# EAGLE library part ALLSERIALSLAVE (library AllSerialv2)
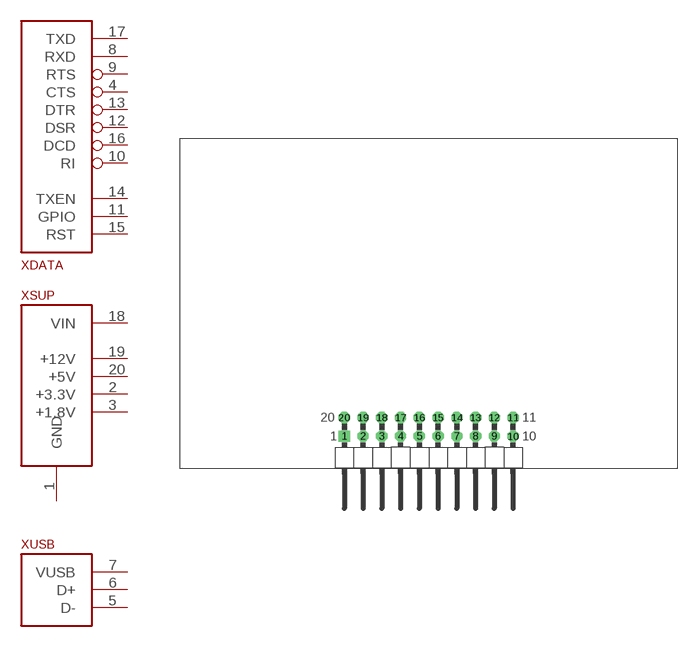
[diagram p1: symbol with the pads of DAUGHTER-THT; footprint DAUGHTER-THT]

Designator prefix X; gates DATA=ALLSERIALDATA_SLAVE SUP=ALLSERIALSUP USB=ALLSERIALUSB

## ALLSERIALSLAVE  [DAUGHTER-THT]
1  SUP:GND
2  SUP:+3.3V
3  SUP:+1.8V
4  DATA:CTS  in
5  USB:D-
6  USB:D+
7  USB:VUSB
8  DATA:RXD  in
9  DATA:RTS  out
10  DATA:RI  in
11  DATA:GPIO
12  DATA:DSR  in
13  DATA:DTR  out
14  DATA:TXEN  out
15  DATA:RST
16  DATA:DCD  in
17  DATA:TXD  out
18  SUP:VIN
19  SUP:+12V
20  SUP:+5V

## Footprint DAUGHTER-THT (pad centres in mm)
drill 1.016 square: 1 -11.43,4.445
drill 1.016 octagon: 2 -8.89,4.445; 3 -6.35,4.445; 4 -3.81,4.445; 5 -1.27,4.445; 6 1.27,4.445; 7 3.81,4.445; 8 6.35,4.445; 9 8.89,4.445; 10 11.43,4.445; 11 11.43,6.985; 12 8.89,6.985; 13 6.35,6.985; 14 3.81,6.985; 15 1.27,6.985; 16 -1.27,6.985; 17 -3.81,6.985; 18 -6.35,6.985; 19 -8.89,6.985; 20 -11.43,6.985